# Altium footprint library XTAL49S-SMD.PcbLib: 1 footprints
Each footprint in its own frame and in the unit in brackets; x right, y up, seen from the top. Pads: shape width x height; smd on the part's side, far side on the other; paste and mask are expansions set on the pad; w line width, h text height; cw(c..) or ccw(c..) is an arc to the next point about the centre after c.
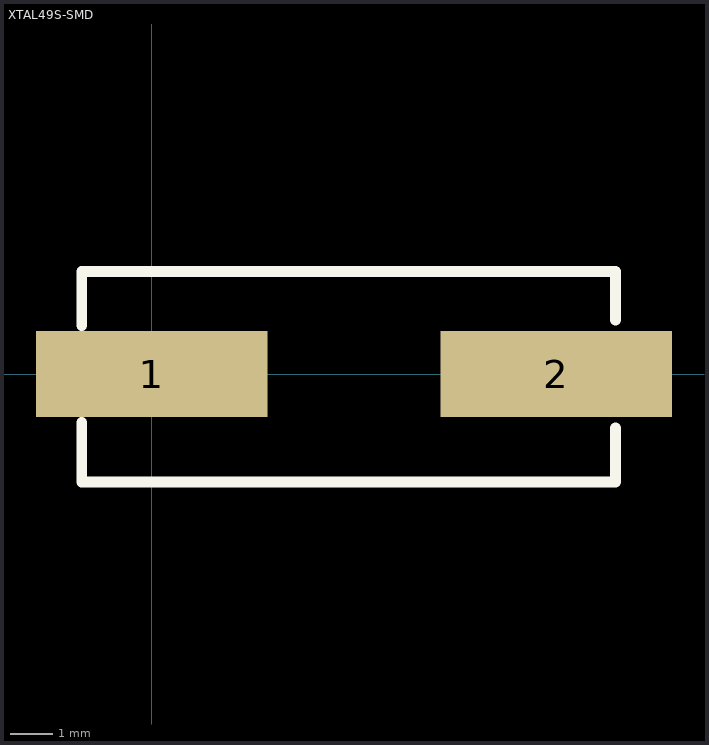
[diagram p0: the footprint, top view; thin cyan lines are the x and y axes]

## XTAL49S-SMD [mil]
pads (2):
  rect 215x80 smd: 1(0,0) 2(375,0)
Top Overlay:
  lines w10: -65,-45 -65,-100 430,-100 430,-50 ; -65,45 -65,95 430,95 430,50
3D body "User Library-SMU4.STEP": height 157.98, standoff 0.5, extent -61.06,-95 431.06,93.98